# Altium footprint library Jamper.PcbLib: 17 footprints (part 2 of 2)
Each footprint in its own frame and in the unit in brackets; x right, y up, seen from the top. Pads: shape width x height; smd on the part's side, far side on the other; paste and mask are expansions set on the pad; w line width, h text height; cw(c..) or ccw(c..) is an arc to the next point about the centre after c.
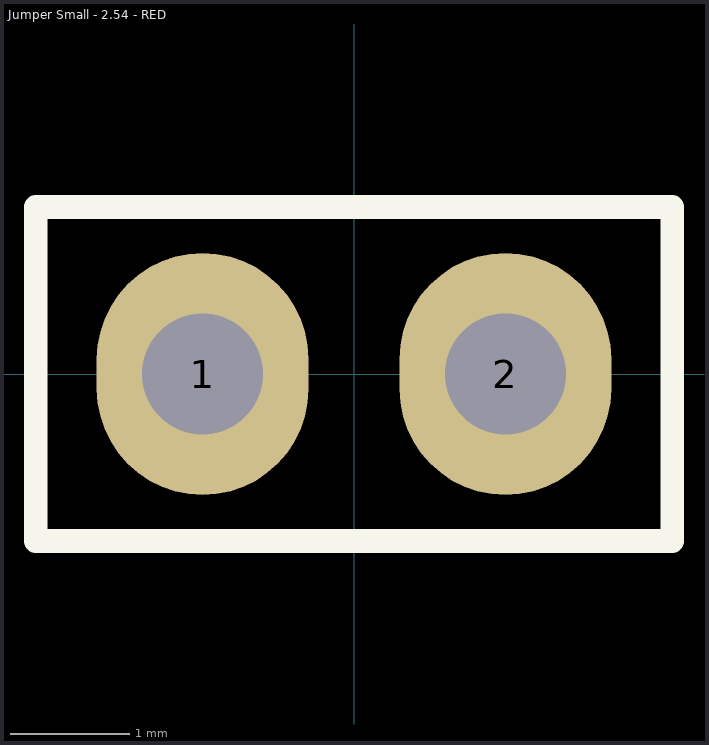
[diagram p1: the footprint, top view; thin cyan lines are the x and y axes]

## Jumper Small - 2.54 - RED [mil]
pads (2):
  oval 70x80 hole 40: 1(-50,0) 2(50,0)
Top Overlay:
  lines w7.87: -105.12,-55.12 -105.12,55.12 105.12,55.12 105.12,-55.12 -105.12,-55.12
3D body "header02.STEP": height 330, standoff -100, extent -100,-50 100,50
3D body "jumper_akspt_g-red.STEP": height 337.4, standoff 102.36, extent -98.03,-48.03 98.04,48.04